# EAGLE library part CONN_08_01 (library HW2LIB)
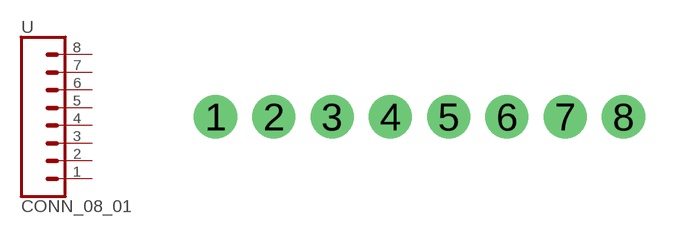
[diagram p7: symbol with the pads of 1X08; footprint 1X08]

Designator prefix -

## CONN_08_01  [1X08]
1  1  pas
2  2  pas
3  3  pas
4  4  pas
5  5  pas
6  6  pas
7  7  pas
8  8  pas

## Footprint 1X08 (pad centres in mm)
Plated Through Hole -8 Pin Specifications: Pin count:8 Pin pitch:0.1" Example device(s): CONN_08
drill 1.016 pad 1.88: 1 0,1.27; 2 2.54,1.27; 3 5.08,1.27; 4 7.62,1.27; 5 10.16,1.27; 6 12.7,1.27; 7 15.24,1.27; 8 17.78,1.27